# Altium schematic symbol library 43045-0200.SchLib: 1 symbol
Pins are listed as number, name and electrical type; pins without a type are passive.

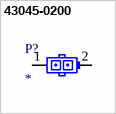
[diagram p0: symbol 43045-0200]

## 43045-0200
designator P?
=Description; Manufacturer: *; Part Number: *; Number of Positions: *; Number of Rows: *; Current Rating: *; ComponentLink1Description: Datasheet; Voltage Rating: *; Fastening Type: *; Orientation: *; Gender: *; Max Operating Temperature: *; Min Operating Temperature: *
pins: 1, 2